# Altium footprint library XCVR_ESP32-C6-WROOM-1-N8.PcbLib: 1 footprints
Each footprint in its own frame and in the unit in brackets; x right, y up, seen from the top. Pads: shape width x height; smd on the part's side, far side on the other; paste and mask are expansions set on the pad; w line width, h text height; cw(c..) or ccw(c..) is an arc to the next point about the centre after c.
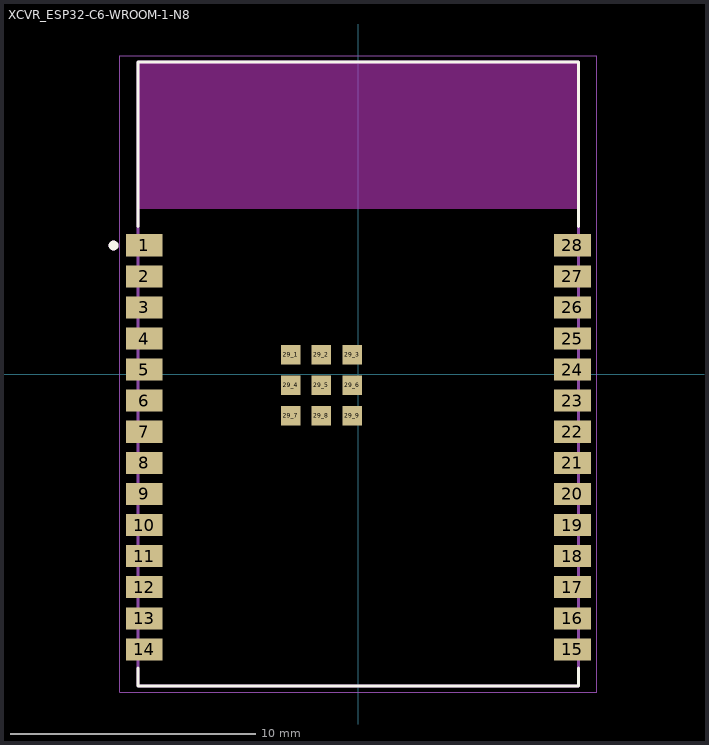
[diagram p0: the footprint, top view; thin cyan lines are the x and y axes]

## XCVR_ESP32-C6-WROOM-1-N8 [mm]
height 3.25
pads (37):
  rect 1.5x0.9 smd: 1(-8.75,5.26) 2(-8.75,3.99) 3(-8.75,2.72) 4(-8.75,1.45) 5(-8.75,0.18) 6(-8.75,-1.09) 7(-8.75,-2.36) 8(-8.75,-3.63) 9(-8.75,-4.9) 10(-8.75,-6.17) 11(-8.75,-7.44) 12(-8.75,-8.71) 13(-8.75,-9.98) 14(-8.75,-11.25) 15(8.75,-11.25) 16(8.75,-9.98) 17(8.75,-8.71) 18(8.75,-7.44) 19(8.75,-6.17) 20(8.75,-4.9) 21(8.75,-3.63) 22(8.75,-2.36) 23(8.75,-1.09) 24(8.75,0.18) 25(8.75,1.45) 26(8.75,2.72) 27(8.75,3.99) 28(8.75,5.26)
  rect 0.8x0.8 smd: 29_1(-2.755,0.79) 29_2(-1.505,0.79) 29_3(-0.255,0.79) 29_4(-2.755,-0.46) 29_5(-1.505,-0.46) 29_6(-0.255,-0.46) 29_7(-2.755,-1.71) 29_8(-1.505,-1.71) 29_9(-0.255,-1.71)
Top Overlay:
  circle w0.2: c-10,5.25 r0.1
  lines w0.127: -9,-12.02 -9,-12.75 9,-12.75 9,-12.02 ; -9,6.03 -9,12.75 9,12.75 9,6.03
Keep-Out Layer:
  region: 9,6.75 -9,6.75 -9,12.75 9,12.75
Assembly Top:
  circle w0.2: c-10,5.25 r0.1
  lines w0.127: -9,-12.75 9,-12.75 9,12.75 -9,12.75 -9,-12.75
Courtyard Top:
  lines w0.05: -9.75,-13 -9.75,13 9.75,13 9.75,-13 -9.75,-13
3D body "step_temp.STEP": height 3.25, standoff 0, extent -9,-12.75 9,12.75